# Altium schematic symbol library WE-IBTI.SchLib: 39 symbols
Pins are listed as number, name and electrical type; pins without a type are passive.

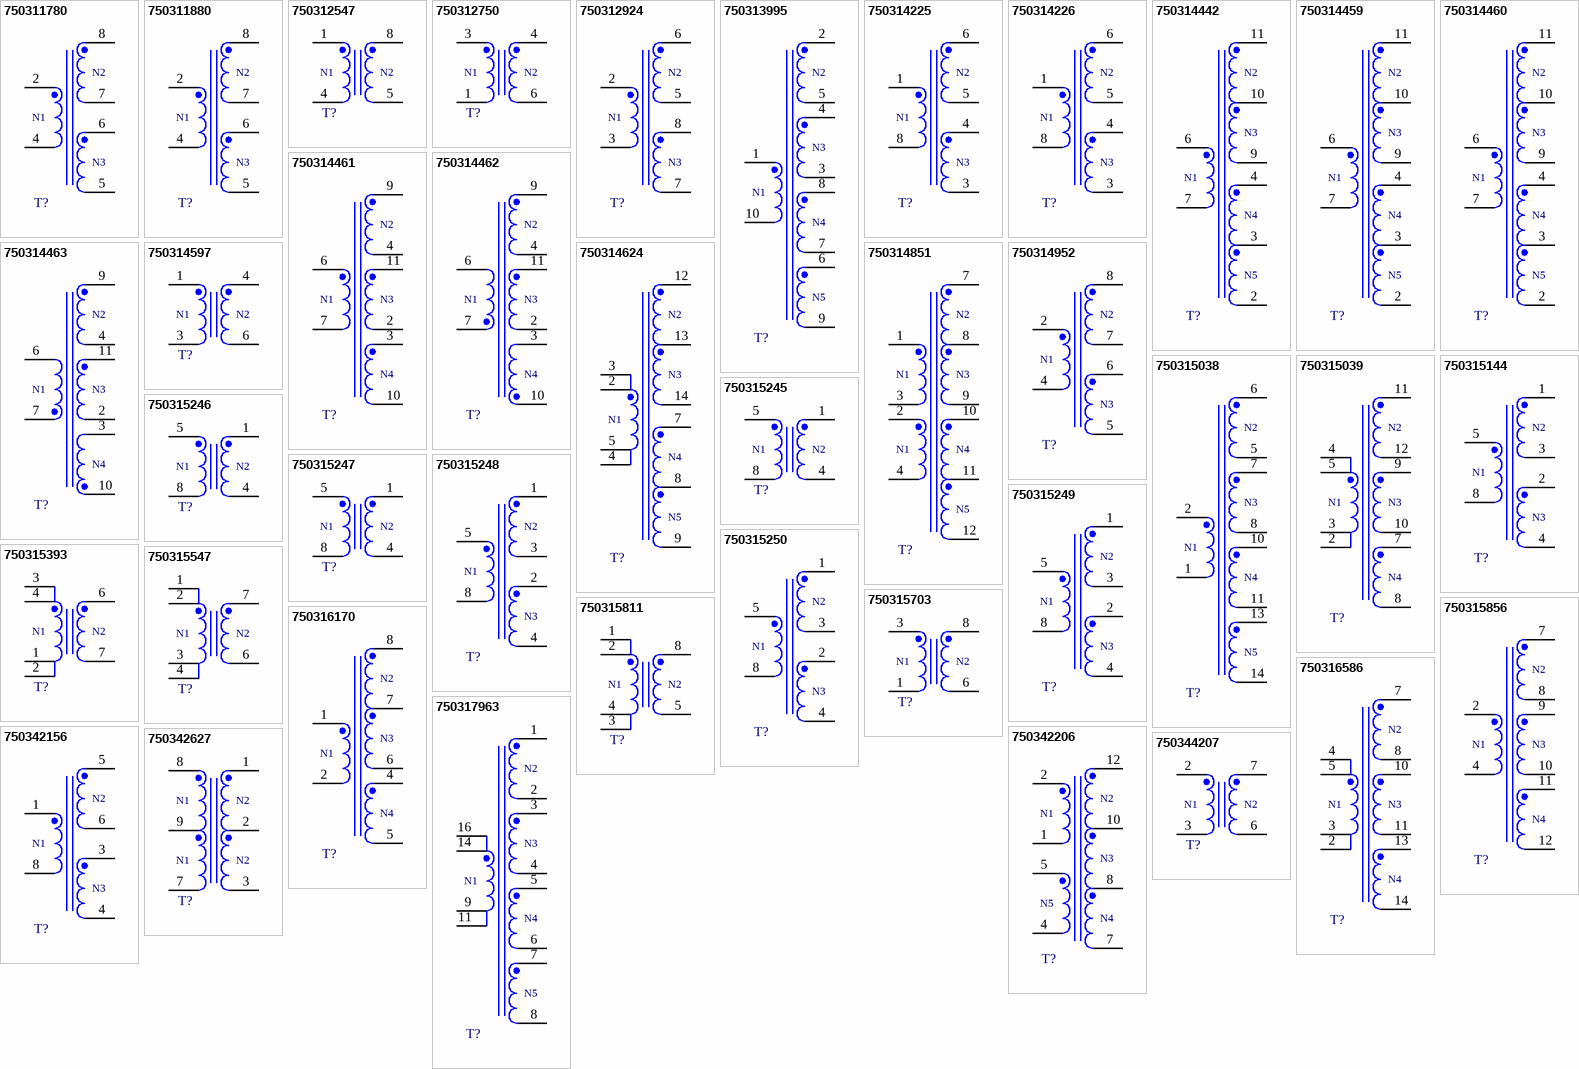
[diagram p0: symbols 750311780 to 750344207]

## 750311780
designator T?  (value not drawn)
WE-IBTI Isolated Buck Transformer, SMT, EP7, Ui = 2.5 - 3.5V, Uo1 = 15V/0.2A, Uo2 = 15V/0.2A; Manufacturer: Wurth Elektronik; Inductance: 2uH; Insulation Test Voltage: 2000V AC; Leakage Inductance: 200nH; Output Current 1: 0.2A; Output Voltage 1: 15V; Saturation Current: 10A; Switching Frequency: 500kHz; Manufacturer Part Number: 750311780; Category: Transformers For DC-DC Converter; Match Code: WE-IBTI; ComponentLink1Description: Website Link; ComponentLink1URL: https://www.we-online.com/redexpert/article/750311780?ad; ComponentLink2Description: Datasheet Link; ComponentLink2URL: https://www.we-online.com/redexpert/spec/750311780?ad; Mount: Surface Mount; Operating Temperature Max: 125°C; Operating Temperature Min: -40°C; Packaging: Tape and Reel; Case/Size Code: EP7; Length: 9.78mm; Width: 9.14mm; Height: 10.54mm; Input Voltage: 2.5 - 3.5V; Output Current 2: 0.2A; Output Voltage 2: 15V
footprint EP7_750311780
pins: 2, 4, 5, 6, 7, 8
text: N2; N1; N3

## 750311880
designator T?  (value not drawn)
WE-IBTI Isolated Buck Transformer, SMT, EP7, Ui = 3 - 6V, Uo = 5V/0.2A; Manufacturer: Wurth Elektronik; Inductance: 2.5uH; Input Voltage: 3 - 6V; Insulation Test Voltage: 2500V AC; Leakage Inductance: 125nH; Output Current 1: 0.2A; Output Voltage 1: 5V; Saturation Current: 12A; Switching Frequency: 200 - 600kHz; Manufacturer Part Number: 750311880; Category: Transformers For DC-DC Converter; Match Code: WE-IBTI; ComponentLink1Description: Website Link; ComponentLink1URL: https://www.we-online.com/redexpert/article/750311880?ad; ComponentLink2Description: Datasheet Link; ComponentLink2URL: https://www.we-online.com/redexpert/spec/750311880?ad; Mount: Surface Mount; Operating Temperature Max: 125°C; Operating Temperature Min: -40°C; Packaging: Tape and Reel; Case/Size Code: EP7; Length: 9.78mm; Width: 9.14mm; Height: 10.54mm
footprint EP7_750311880
pins: 2, 4, 5, 6, 7, 8
text: N2; N1; N3

## 750312547
designator T?  (value not drawn)
WE-IBTI Isolated Buck Transformer, SMT, EP7, Ui = 3 - 6V, Uo = 5V/0.2A; Manufacturer: Wurth Elektronik; Inductance: 1uH; Input Voltage: 3 - 6V; Insulation Test Voltage: 3000V AC; Leakage Inductance: 70nH; Output Current 1: 0.2A; Output Voltage 1: 5V; Switching Frequency: 500kHz; Manufacturer Part Number: 750312547; Category: Transformers For DC-DC Converter; Match Code: WE-IBTI; ComponentLink1Description: Website Link; ComponentLink1URL: https://www.we-online.com/redexpert/article/750312547?ad; ComponentLink2Description: Datasheet Link; ComponentLink2URL: https://www.we-online.com/redexpert/spec/750312547?ad; Mount: Surface Mount; Operating Temperature Max: 125°C; Operating Temperature Min: -40°C; Packaging: Tape and Reel; Case/Size Code: EP7; Length: 9.78mm; Width: 9.14mm; Height: 10.54mm
footprint EP7_750312547
pins: 1, 4, 5, 8
text: N1; N2

## 750312750
designator T?  (value not drawn)
WE-IBTI Isolated Buck Transformer, SMT, EP5, Ui = 20 - 100V, Uo = 10V/0.3A; Manufacturer: Wurth Elektronik; Buck Voltage: 10V; Inductance: 23uH; Insulation Test Voltage: 1500V AC; Leakage Inductance: 400nH; Output Current 1: 0.3A; Saturation Current: 0.76A; Switching Frequency: 750kHz; Manufacturer Part Number: 750312750; Category: Transformers For DC-DC Converter; Match Code: WE-IBTI; ComponentLink1Description: Website Link; ComponentLink1URL: https://www.we-online.com/redexpert/article/750312750?ad; ComponentLink2Description: Datasheet Link; ComponentLink2URL: https://www.we-online.com/redexpert/spec/750312750?ad; Mount: Surface Mount; Operating Temperature Max: 125°C; Operating Temperature Min: -40°C; Packaging: Tape and Reel; Case/Size Code: EP5; Length: 6.6mm; Width: 8.26mm; Height: 5.59mm; Input Voltage: 20 - 100V; Output Voltage 1: 10V
footprint EP5_750312750
pins: 1, 3, 4, 6
text: N1; N2

## 750312924
designator T?  (value not drawn)
WE-IBTI Isolated Buck Transformer, SMT, EP5, Ui = 36 - 75V, Uo1 = 10V/0.12A, Uo2 = 5V/0.08A; Manufacturer: Wurth Elektronik; Buck Voltage: 10V; Inductance: 26uH; Input Voltage: 36 - 75V; Insulation Test Voltage: 1500V AC; Leakage Inductance: 1000nH; Output Current 1: 0.12A; Output Current 2: 0.08A; Output Voltage 2: 5V; Saturation Current: 0.55A; Switching Frequency: 750kHz; Manufacturer Part Number: 750312924; Category: Transformers For DC-DC Converter; Match Code: WE-IBTI; ComponentLink1Description: Website Link; ComponentLink1URL: https://www.we-online.com/redexpert/article/750312924?ad; ComponentLink2Description: Datasheet Link; ComponentLink2URL: https://www.we-online.com/redexpert/spec/750312924?ad; Mount: Surface Mount; Operating Temperature Max: 125°C; Operating Temperature Min: -40°C; Packaging: Tape and Reel; Case/Size Code: EP5; Length: 8.35mm; Width: 9.5mm; Height: 6.35mm; Output Voltage 1: 10V
footprint EP5_750312924
pins: 2, 3, 5, 6, 7, 8
text: N2; N1; N3

## 750313995
designator T?  (value not drawn)
WE-IBTI Isolated Buck Transformer, SMT, EP13, Ui = 15 - 40, Uo1 = 15V/0.05A, Uo2 = 5V/0.1A, Uo3 = 5V/0.1A, Uo4 = 15V/0.05A; Manufacturer: Wurth Elektronik; Buck Voltage: 7.8V; Inductance: 50uH; Input Voltage: 15 - 40; Insulation Test Voltage: 1500V AC; Leakage Inductance: 260nH; Output Current 1: 0.05A; Output Current 2: 0.1A; Output Voltage 1: 15V; Output Voltage 2: 5V; Saturation Current: 1.5A; Switching Frequency: 300 - 600kHz; Manufacturer Part Number: 750313995; Category: Transformers For DC-DC Converter; Match Code: WE-IBTI; ComponentLink1Description: Website Link; ComponentLink1URL: https://www.we-online.com/redexpert/article/750313995?ad; ComponentLink2Description: Datasheet Link; ComponentLink2URL: https://www.we-online.com/redexpert/spec/750313995?ad; Mount: Surface Mount; Operating Temperature Max: 125°C; Operating Temperature Min: -40°C; Packaging: Tape and Reel; Case/Size Code: EP13; Length: 13.46mm; Width: 17.75mm; Height: 12.7mm; Output Current 3: 0.1A; Output Current 4: 0.05A; Output Voltage 3: 5V; Output Voltage 4: 15V
footprint EP13_750313995
pins: 1, 2, 3, 4, 5, 6, 7, 8, 9, 10
text: N2; N3; N1; N4; N5

## 750314225
designator T?  (value not drawn)
WE-IBTI Isolated Buck Transformer, SMT, EP10, Ui = 15 - 40V, Uo1 = 5V/0.25A, Uo2 = 5V/0.25A; Manufacturer: Wurth Elektronik; Buck Voltage: 7.8V; Inductance: 50uH; Input Voltage: 15 - 40V; Insulation Test Voltage: 1500V AC; Leakage Inductance: 800nH; Output Current 1: 0.25A; Output Voltage 1: 5V; Saturation Current: 1.3A; Switching Frequency: 250 - 600kHz; Manufacturer Part Number: 750314225; Category: Transformers For DC-DC Converter; Match Code: WE-IBTI; ComponentLink1Description: Website Link; ComponentLink1URL: https://www.we-online.com/redexpert/article/750314225?ad; ComponentLink2Description: Datasheet Link; ComponentLink2URL: https://www.we-online.com/redexpert/spec/750314225?ad; Mount: Surface Mount; Operating Temperature Max: 125°C; Operating Temperature Min: -40°C; Packaging: Tape and Reel; Case/Size Code: EP10; Length: 13.34mm; Width: 15.24mm; Height: 11.43mm; Output Current 2: 0.25A; Output Voltage 2: 5V
footprint EP10_750314225
pins: 1, 3, 4, 5, 6, 8
text: N2; N1; N3

## 750314226
designator T?  (value not drawn)
WE-IBTI Isolated Buck Transformer, SMT, EP10, Ui = 15 - 40V, Uo1 = 15V/0.15A, Uo2 = 15V/0.15A; Manufacturer: Wurth Elektronik; Buck Voltage: 7.8V; Inductance: 33.8uH; Input Voltage: 15 - 40V; Insulation Test Voltage: 1875V AC; Leakage Inductance: 150nH; Output Current 1: 0.15A; Output Voltage 1: 15V; Saturation Current: 1A; Switching Frequency: 250 - 600kHz; Manufacturer Part Number: 750314226; Category: Transformers For DC-DC Converter; Match Code: WE-IBTI; ComponentLink1Description: Website Link; ComponentLink1URL: https://www.we-online.com/redexpert/article/750314226?ad; ComponentLink2Description: Datasheet Link; ComponentLink2URL: https://www.we-online.com/redexpert/spec/750314226?ad; Mount: Surface Mount; Operating Temperature Max: 125°C; Operating Temperature Min: -40°C; Packaging: Tape and Reel; Case/Size Code: EP10; Length: 13.34mm; Width: 15.24mm; Height: 11.43mm; Output Current 2: 0.15A; Output Voltage 2: 15V
footprint EP10_750314226
pins: 1, 3, 4, 5, 6, 8
text: N2; N1; N3

## 750314442
designator T?  (value not drawn)
WE-IBTI Isolated Buck Transformer, SMT, ER11_5, Ui = 16 - 36V, Uo1 = 10V/0.025A, Uo2 = 5V/0.08A, Uo3 = -5V/0.08A, Uo4 = -10V/0.025A; Manufacturer: Wurth Elektronik; Buck Voltage: 13V; Inductance: 45uH; Input Voltage: 16 - 36V; Insulation Test Voltage: 1500V AC; Leakage Inductance: 930nH; Output Current 1: 0.025A; Output Current 2: 0.08A; Output Voltage 1: 10V; Output Voltage 2: 5V; Output Voltage 3: -5V; Output Voltage 4: -10V; Saturation Current: 0.78A; Switching Frequency: 200 - 350kHz; Manufacturer Part Number: 750314442; Category: Transformers For DC-DC Converter; Match Code: WE-IBTI; ComponentLink1Description: Website Link; ComponentLink1URL: https://www.we-online.com/redexpert/article/750314442?ad; ComponentLink2Description: Datasheet Link; ComponentLink2URL: https://www.we-online.com/redexpert/spec/750314442?ad; Mount: Surface Mount; Operating Temperature Max: 125°C; Operating Temperature Min: -40°C; Packaging: Tape and Reel; Case/Size Code: ER11_5; Length: 12.95mm; Width: 12.7mm; Height: 5.98mm; Output Current 3: 0.08A; Output Current 4: 0.025A
footprint ER11_5_750314442
pins: 2, 3, 4, 6, 7, 9, 10, 11
text: N2; N3; N1; N4; N5

## 750314459
designator T?  (value not drawn)
WE-IBTI Isolated Buck Transformer, SMT, ER11_5, Ui = 16 - 36V, Uo1 = 7V/0.03A, Uo2 = 5V/0.08A, Uo3 = -5V/0.08A, Uo4 = -7V/0.03A; Manufacturer: Wurth Elektronik; Buck Voltage: 13V; Inductance: 45uH; Input Voltage: 16 - 36V; Insulation Test Voltage: 1500V AC; Leakage Inductance: 1000nH; Output Current 1: 0.03A; Output Current 2: 0.08A; Output Voltage 1: 7V; Output Voltage 2: 5V; Output Voltage 3: -5V; Output Voltage 4: -7V; Saturation Current: 0.8A; Switching Frequency: 200 - 350kHz; Manufacturer Part Number: 750314459; Category: Transformers For DC-DC Converter; Match Code: WE-IBTI; ComponentLink1Description: Website Link; ComponentLink1URL: https://www.we-online.com/redexpert/article/750314459?ad; ComponentLink2Description: Datasheet Link; ComponentLink2URL: https://www.we-online.com/redexpert/spec/750314459?ad; Mount: Surface Mount; Operating Temperature Max: 125°C; Operating Temperature Min: -40°C; Packaging: Tape and Reel; Case/Size Code: ER11_5; Length: 12.95mm; Width: 12.7mm; Height: 5.98mm; Output Current 3: 0.08A; Output Current 4: 0.03A
footprint ER11_5_750314459
pins: 2, 3, 4, 6, 7, 9, 10, 11
text: N2; N3; N1; N4; N5

## 750314460
designator T?  (value not drawn)
WE-IBTI Isolated Buck Transformer, SMT, ER11_5, Ui = 16 - 36V, Uo1 = 12V/0.03A, Uo2 = 12V/0.03A, Uo3 = -5V/0.08A, Uo4 = -5V/0.08A; Manufacturer: Wurth Elektronik; Buck Voltage: 13V; Inductance: 45uH; Input Voltage: 16 - 36V; Insulation Test Voltage: 1500V AC; Leakage Inductance: 910nH; Output Current 1: 0.03A; Output Current 3: 0.08A; Output Voltage 1: 12V; Output Voltage 3: -5V; Saturation Current: 0.9A; Switching Frequency: 200 - 350kHz; Manufacturer Part Number: 750314460; Category: Transformers For DC-DC Converter; Match Code: WE-IBTI; ComponentLink1Description: Website Link; ComponentLink1URL: https://www.we-online.com/redexpert/article/750314460?ad; ComponentLink2Description: Datasheet Link; ComponentLink2URL: https://www.we-online.com/redexpert/spec/750314460?ad; Mount: Surface Mount; Operating Temperature Max: 125°C; Operating Temperature Min: -40°C; Packaging: Tape and Reel; Case/Size Code: ER11_5; Length: 12.95mm; Width: 12.7mm; Height: 5.98mm; Output Current 2: 0.03A; Output Current 4: 0.08A; Output Voltage 2: 12V; Output Voltage 4: -5V
footprint ER11_5_750314460
pins: 2, 3, 4, 6, 7, 9, 10, 11
text: N2; N3; N1; N4; N5

## 750314461
designator T?  (value not drawn)
WE-IBTI Isolated Buck Transformer, SMT, ER11_5, Ui = 16 - 36V, Uo1 = 15V/0.033A, Uo2 = 5V/0.1A, Uo3 = -5V/0.1A; Manufacturer: Wurth Elektronik; Buck Voltage: 13V; Inductance: 45uH; Input Voltage: 16 - 36V; Insulation Test Voltage: 1500V AC; Leakage Inductance: 400nH; Output Current 1: 0.033A; Output Current 2: 0.1A; Output Voltage 1: 15V; Output Voltage 2: 5V; Output Voltage 3: -5V; Saturation Current: 0.96A; Switching Frequency: 200 - 350kHz; Manufacturer Part Number: 750314461; Category: Transformers For DC-DC Converter; Match Code: WE-IBTI; ComponentLink1Description: Website Link; ComponentLink1URL: https://www.we-online.com/redexpert/article/750314461?ad; ComponentLink2Description: Datasheet Link; ComponentLink2URL: https://www.we-online.com/redexpert/spec/750314461?ad; Mount: Surface Mount; Operating Temperature Max: 125°C; Operating Temperature Min: -40°C; Packaging: Tape and Reel; Case/Size Code: ER11_5; Length: 12.95mm; Width: 12.7mm; Height: 5.98mm; Output Current 3: 0.1A
footprint ER11_5_750314461
pins: 2, 3, 4, 6, 7, 9, 10, 11
text: N2; N1; N3; N4

## 750314462
designator T?  (value not drawn)
WE-IBTI Isolated Buck Transformer, SMT, ER11_5, Ui = 16 - 36V, Uo1 = 5V/0.1A, Uo2 = 12V/0.04A, Uo3 = -12V/0.04A; Manufacturer: Wurth Elektronik; Buck Voltage: 13V; Inductance: 45uH; Input Voltage: 16 - 36V; Insulation Test Voltage: 1500V AC; Leakage Inductance: 450nH; Output Current 1: 0.1A; Output Current 2: 0.04A; Output Voltage 1: 5V; Output Voltage 2: 12V; Output Voltage 3: -12V; Saturation Current: 0.98A; Switching Frequency: 200 - 350kHz; Manufacturer Part Number: 750314462; Category: Transformers For DC-DC Converter; Match Code: WE-IBTI; ComponentLink1Description: Website Link; ComponentLink1URL: https://www.we-online.com/redexpert/article/750314462?ad; ComponentLink2Description: Datasheet Link; ComponentLink2URL: https://www.we-online.com/redexpert/spec/750314462?ad; Mount: Surface Mount; Operating Temperature Max: 125°C; Operating Temperature Min: -40°C; Packaging: Tape and Reel; Case/Size Code: ER11_5; Length: 12.95mm; Width: 12.7mm; Height: 5.98mm; Output Current 3: 0.04A
footprint ER11_5_750314462
pins: 2, 3, 4, 6, 7, 9, 10, 11
text: N2; N1; N3; N4

## 750314463
designator T?  (value not drawn)
WE-IBTI Isolated Buck Transformer, SMT, ER11_5, Ui = 16 - 36V, Uo1 = 24V/0.02A, Uo2 = 12V/0.04A, Uo3 = -12V/0.04A; Manufacturer: Wurth Elektronik; Buck Voltage: 13V; Inductance: 45uH; Input Voltage: 16 - 36V; Insulation Test Voltage: 1500V AC; Leakage Inductance: 450nH; Output Current 1: 0.02A; Output Current 2: 0.04A; Output Voltage 1: 24V; Output Voltage 2: 12V; Output Voltage 3: -12V; Saturation Current: 0.96A; Switching Frequency: 200 - 350kHz; Manufacturer Part Number: 750314463; Category: Transformers For DC-DC Converter; Match Code: WE-IBTI; ComponentLink1Description: Website Link; ComponentLink1URL: https://www.we-online.com/redexpert/article/750314463?ad; ComponentLink2Description: Datasheet Link; ComponentLink2URL: https://www.we-online.com/redexpert/spec/750314463?ad; Mount: Surface Mount; Operating Temperature Max: 125°C; Operating Temperature Min: -40°C; Packaging: Tape and Reel; Case/Size Code: ER11_5; Length: 12.95mm; Width: 12.7mm; Height: 5.98mm; Output Current 3: 0.04A
footprint ER11_5_750314463
pins: 2, 3, 4, 6, 7, 9, 10, 11
text: N2; N1; N3; N4

## 750314597
designator T?  (value not drawn)
WE-IBTI Isolated Buck Transformer, SMT, EP7, Ui = 10 - 40V, Uo = 15.5V/0.25A; Manufacturer: Wurth Elektronik; Buck Voltage: 8V; Inductance: 60uH; Input Voltage: 10 - 40V; Insulation Test Voltage: 1500V AC; Leakage Inductance: 1200nH; Output Current 1: 0.25A; Output Voltage 1: 15.5V; Saturation Current: 0.84A; Switching Frequency: 150kHz; Manufacturer Part Number: 750314597; Category: Transformers For DC-DC Converter; Match Code: WE-IBTI; ComponentLink1Description: Website Link; ComponentLink1URL: https://www.we-online.com/redexpert/article/750314597?ad; ComponentLink2Description: Datasheet Link; ComponentLink2URL: https://www.we-online.com/redexpert/spec/750314597?ad; Mount: Surface Mount; Operating Temperature Max: 125°C; Operating Temperature Min: -40°C; Packaging: Tape and Reel; Case/Size Code: EP7; Length: 10.16mm; Width: 13.36mm; Height: 8.64mm
footprint EP7_750314597
pins: 1, 3, 4, 6
text: N1; N2

## 750314624
designator T?  (value not drawn)
WE-IBTI Isolated Buck Transformer, THT, EE20_10_6, Ui = 17 - 35V, Uo1 = 9V/0.1A, Uo2 = 16V/0.1A, Uo3 = 9V/0.1A, Uo4 = 16V/0.1A; Manufacturer: Wurth Elektronik; Buck Voltage: 10.3V; Inductance: 60uH; Input Voltage: 17 - 35V; Insulation Test Voltage: 5000V AC; Leakage Inductance: 800nH; Output Current 1: 0.1A; Output Voltage 1: 9V; Output Voltage 2: 16V; Saturation Current: 1.55A; Switching Frequency: 250 - 600kHz; Manufacturer Part Number: 750314624; Category: Transformers For DC-DC Converter; Match Code: WE-IBTI; ComponentLink1Description: Website Link; ComponentLink1URL: https://www.we-online.com/redexpert/article/750314624?ad; ComponentLink2Description: Datasheet Link; ComponentLink2URL: https://www.we-online.com/redexpert/spec/750314624?ad; Mount: Through Hole; Operating Temperature Max: 125°C; Operating Temperature Min: -40°C; Packaging: Tray; Case/Size Code: EE20_10_6; Length: 22.2mm; Width: 25mm; Height: 16mm; Output Current 2: 0.1A; Output Current 3: 0.1A; Output Current 4: 0.1A; Output Voltage 3: 9V; Output Voltage 4: 16V
footprint EE20_10_6_750314624
pins: 2, 3, 4, 5, 7, 8, 9, 12, 13, 14
text: N2; N3; N1; N4; N5

## 750314851
designator T?  (value not drawn)
WE-IBTI Isolated Buck Transformer, SMT, EE_16_8_5, Ui = 14 - 40V, Uo1 = 14V/0.1A, Uo2 = 5V/0.05A, Uo3 = 14V/0.05A, Uo4 = 5V/0.05A; Manufacturer: Wurth Elektronik; Buck Voltage: 10.2V; Inductance: 68uH; Input Voltage: 14 - 40V; Insulation Test Voltage: 4000V AC; Leakage Inductance: 1200nH; Output Current 1: 0.1A; Output Current 2: 0.05A; Output Voltage 1: 14V; Output Voltage 2: 5V; Saturation Current: 1.8A; Switching Frequency: 300kHz; Manufacturer Part Number: 750314851; Category: Transformers For DC-DC Converter; Match Code: WE-IBTI; ComponentLink1Description: Website Link; ComponentLink1URL: https://www.we-online.com/redexpert/article/750314851?ad; ComponentLink2Description: Datasheet Link; ComponentLink2URL: https://www.we-online.com/redexpert/spec/750314851?ad; Mount: Surface Mount; Operating Temperature Max: 125°C; Operating Temperature Min: -40°C; Packaging: Tape and Reel; Case/Size Code: EE_16_8_5; Length: 17.78mm; Width: 26.1mm; Height: 13.8mm; Output Current 3: 0.05A; Output Current 4: 0.05A; Output Voltage 3: 14V; Output Voltage 4: 5V
footprint EE_16_8_5_750314851
pins: 1, 2, 3, 4, 7, 8, 9, 10, 11, 12
text: N2; N1; N3; N4; N5

## 750314952
designator T?  (value not drawn)
WE-IBTI Isolated Buck Transformer, SMT, EP7, Ui = 10 - 40V, Uo = 3.3V/0.15A; Manufacturer: Wurth Elektronik; Buck Voltage: 3.3V; Inductance: 2500uH; Input Voltage: 10 - 40V; Insulation Test Voltage: 2000V AC; Output Current 1: 0.15A; Switching Frequency: 100kHz; Manufacturer Part Number: 750314952; Category: Transformers For DC-DC Converter; Match Code: WE-IBTI; ComponentLink1Description: Website Link; ComponentLink1URL: https://www.we-online.com/redexpert/article/750314952?ad; ComponentLink2Description: Datasheet Link; ComponentLink2URL: https://www.we-online.com/redexpert/spec/750314952?ad; Mount: Surface Mount; Operating Temperature Max: 125°C; Operating Temperature Min: -40°C; Packaging: Tape and Reel; Case/Size Code: EP7; Length: 9.78mm; Width: 9.14mm; Height: 10.54mm; Output Voltage 1: 3.3V
footprint EP7_750314952
pins: 2, 4, 5, 6, 7, 8
text: N2; N1; N3

## 750315038
designator T?  (value not drawn)
WE-IBTI Isolated Buck Transformer, THT, PQ2020, Ui = 7 - 26V, Uo1 = 23V/0.3A, Uo2 = 23V/0.1A, Uo3 = 23V/0.1A, Uo4 = 23V/0.1A; Manufacturer: Wurth Elektronik; Buck Voltage: 10.5V; Inductance: 36.5uH; Input Voltage: 7 - 26V; Insulation Test Voltage: 3600V AC; Leakage Inductance: 300nH; Output Current 1: 0.3A; Output Current 2: 0.1A; Output Voltage 1: 23V; Switching Frequency: 250 - 600kHz; Manufacturer Part Number: 750315038; Category: Transformers For DC-DC Converter; Match Code: WE-IBTI; ComponentLink1Description: Website Link; ComponentLink1URL: https://www.we-online.com/redexpert/article/750315038?ad; ComponentLink2Description: Datasheet Link; ComponentLink2URL: https://www.we-online.com/redexpert/spec/750315038?ad; Mount: Through Hole; Operating Temperature Max: 125°C; Operating Temperature Min: -40°C; Packaging: Tray; Case/Size Code: PQ2020; Length: 23.36mm; Width: 23.88mm; Height: 24.14mm; Output Current 3: 0.1A; Output Current 4: 0.1A; Output Voltage 2: 23V; Output Voltage 3: 23V; Output Voltage 4: 23V
footprint PQ2020_750315038
pins: 1, 2, 5, 6, 7, 8, 10, 11, 13, 14
text: N2; N3; N1; N4; N5

## 750315039
designator T?  (value not drawn)
WE-IBTI Isolated Buck Transformer, SMT, EFD20, Ui = 19 - 30V, Uo1 = 5V/1A, Uo2 = 15V/0.2A, Uo3 = 15V/0.2A; Manufacturer: Wurth Elektronik; Buck Voltage: 7.65V; Inductance: 40uH; Input Voltage: 19 - 30V; Insulation Test Voltage: 1500V AC; Leakage Inductance: 300nH; Output Current 1: 1A; Output Current 2: 0.2A; Output Voltage 1: 5V; Output Voltage 2: 15V; Saturation Current: 1.8A; Switching Frequency: 250kHz; Manufacturer Part Number: 750315039; Category: Transformers For DC-DC Converter; Match Code: WE-IBTI; ComponentLink1Description: Website Link; ComponentLink1URL: https://www.we-online.com/redexpert/article/750315039?ad; ComponentLink2Description: Datasheet Link; ComponentLink2URL: https://www.we-online.com/redexpert/spec/750315039?ad; Mount: Surface Mount; Operating Temperature Max: 125°C; Operating Temperature Min: -40°C; Packaging: Tape and Reel; Case/Size Code: EFD20; Length: 23.11mm; Width: 29.08mm; Height: 11.43mm; Output Current 3: 0.2A; Output Voltage 3: 15V
footprint EFD20_750315039
pins: 2, 3, 4, 5, 7, 8, 9, 10, 11, 12
text: N2; N1; N3; N4

## 750315144
designator T?  (value not drawn)
WE-IBTI Isolated Buck Transformer, SMT, ER9_5S, Ui = 12 - 36V, Uo1 = -17.5V/0.03A, Uo2 = 17.5V/0.045A; Manufacturer: Wurth Elektronik; Buck Voltage: 9V; Inductance: 80uH; Input Voltage: 12 - 36V; Insulation Test Voltage: 490V AC; Leakage Inductance: 2100nH; Output Current 1: 0.03A; Output Current 2: 0.045A; Output Voltage 1: -17.5V; Output Voltage 2: 17.5V; Saturation Current: 0.5A; Switching Frequency: 300kHz; Manufacturer Part Number: 750315144; Category: Transformers For DC-DC Converter; Match Code: WE-IBTI; ComponentLink1Description: Website Link; ComponentLink1URL: https://www.we-online.com/redexpert/article/750315144?ad; ComponentLink2Description: Datasheet Link; ComponentLink2URL: https://www.we-online.com/redexpert/spec/750315144?ad; Mount: Surface Mount; Operating Temperature Max: 125°C; Operating Temperature Min: -40°C; Packaging: Tape and Reel; Case/Size Code: ER9_5S; Length: 10mm; Width: 14mm; Height: 5mm
footprint ER9_5S_750315144
pins: 1, 2, 3, 4, 5, 8
text: N2; N1; N3

## 750315245
designator T?  (value not drawn)
WE-IBTI Isolated Buck Transformer, SMT, ER9_5S, Ui = 20 - 30V, Uo = 5V/0.2A; Manufacturer: Wurth Elektronik; Buck Voltage: 5.5V; Inductance: 30uH; Input Voltage: 20 - 30V; Insulation Test Voltage: 1500V AC; Leakage Inductance: 750nH; Output Current 1: 0.2A; Output Voltage 1: 5V; Saturation Current: 0.96A; Switching Frequency: 350kHz; Manufacturer Part Number: 750315245; Category: Transformers For DC-DC Converter; Match Code: WE-IBTI; ComponentLink1Description: Website Link; ComponentLink1URL: https://www.we-online.com/redexpert/article/750315245?ad; ComponentLink2Description: Datasheet Link; ComponentLink2URL: https://www.we-online.com/redexpert/spec/750315245?ad; Mount: Surface Mount; Operating Temperature Max: 125°C; Operating Temperature Min: -40°C; Packaging: Tape and Reel; Case/Size Code: ER9_5S; Length: 10mm; Width: 14mm; Height: 5mm
footprint ER9_5S_750315245
pins: 1, 4, 5, 8
text: N1; N2

## 750315246
designator T?  (value not drawn)
WE-IBTI Isolated Buck Transformer, SMT, ER9_5S, Ui = 16 - 36V, Uo = 5V/0.2A; Manufacturer: Wurth Elektronik; Buck Voltage: 5V; Inductance: 26uH; Input Voltage: 16 - 36V; Insulation Test Voltage: 1500V AC; Leakage Inductance: 650nH; Output Current 1: 0.2A; Saturation Current: 0.96A; Switching Frequency: 350kHz; Manufacturer Part Number: 750315246; Category: Transformers For DC-DC Converter; Match Code: WE-IBTI; ComponentLink1Description: Website Link; ComponentLink1URL: https://www.we-online.com/redexpert/article/750315246?ad; ComponentLink2Description: Datasheet Link; ComponentLink2URL: https://www.we-online.com/redexpert/spec/750315246?ad; Mount: Surface Mount; Operating Temperature Max: 125°C; Operating Temperature Min: -40°C; Packaging: Tape and Reel; Case/Size Code: ER9_5S; Length: 10mm; Width: 14mm; Height: 5mm; Output Voltage 1: 5V
footprint ER9_5S_750315246
pins: 1, 4, 5, 8
text: N1; N2

## 750315247
designator T?  (value not drawn)
WE-IBTI Isolated Buck Transformer, SMT, ER9_5S, Ui = 20 - 30V, Uo = 15V/0.1A; Manufacturer: Wurth Elektronik; Buck Voltage: 7.8V; Inductance: 30uH; Input Voltage: 20 - 30V; Insulation Test Voltage: 1500V AC; Leakage Inductance: 825nH; Output Current 1: 0.1A; Output Voltage 1: 15V; Saturation Current: 0.88A; Switching Frequency: 350kHz; Manufacturer Part Number: 750315247; Category: Transformers For DC-DC Converter; Match Code: WE-IBTI; ComponentLink1Description: Website Link; ComponentLink1URL: https://www.we-online.com/redexpert/article/750315247?ad; ComponentLink2Description: Datasheet Link; ComponentLink2URL: https://www.we-online.com/redexpert/spec/750315247?ad; Mount: Surface Mount; Operating Temperature Max: 125°C; Operating Temperature Min: -40°C; Packaging: Tape and Reel; Case/Size Code: ER9_5S; Length: 10mm; Width: 14mm; Height: 5mm
footprint ER9_5S_750315247
pins: 1, 4, 5, 8
text: N1; N2

## 750315248
designator T?  (value not drawn)
WE-IBTI Isolated Buck Transformer, SMT, ER9_5S, Ui = 20 - 30V, Uo1 = -5V/0.1A, Uo2 = 5V/0.1A; Manufacturer: Wurth Elektronik; Buck Voltage: 5.5V; Inductance: 30uH; Input Voltage: 20 - 30V; Insulation Test Voltage: 1500V AC; Leakage Inductance: 750nH; Output Current 1: 0.1A; Output Voltage 1: -5V; Output Voltage 2: 5V; Saturation Current: 0.96A; Switching Frequency: 350kHz; Manufacturer Part Number: 750315248; Category: Transformers For DC-DC Converter; Match Code: WE-IBTI; ComponentLink1Description: Website Link; ComponentLink1URL: https://www.we-online.com/redexpert/article/750315248?ad; ComponentLink2Description: Datasheet Link; ComponentLink2URL: https://www.we-online.com/redexpert/spec/750315248?ad; Mount: Surface Mount; Operating Temperature Max: 125°C; Operating Temperature Min: -40°C; Packaging: Tape and Reel; Case/Size Code: ER9_5S; Length: 10mm; Width: 14mm; Height: 5mm; Output Current 2: 0.1A
footprint ER9_5S_750315248
pins: 1, 2, 3, 4, 5, 8
text: N2; N1; N3

## 750315249
designator T?  (value not drawn)
WE-IBTI Isolated Buck Transformer, SMT, ER9_5S, Ui = 20 - 30V, Uo1 = -15V/0.05A, Uo2 = 15V/0.05A; Manufacturer: Wurth Elektronik; Buck Voltage: 10.4V; Inductance: 30uH; Input Voltage: 20 - 30V; Insulation Test Voltage: 1500V AC; Leakage Inductance: 900nH; Output Current 1: 0.05A; Output Voltage 1: -15V; Output Voltage 2: 15V; Saturation Current: 0.92A; Switching Frequency: 350kHz; Manufacturer Part Number: 750315249; Category: Transformers For DC-DC Converter; Match Code: WE-IBTI; ComponentLink1Description: Website Link; ComponentLink1URL: https://www.we-online.com/redexpert/article/750315249?ad; ComponentLink2Description: Datasheet Link; ComponentLink2URL: https://www.we-online.com/redexpert/spec/750315249?ad; Mount: Surface Mount; Operating Temperature Max: 125°C; Operating Temperature Min: -40°C; Packaging: Tape and Reel; Case/Size Code: ER9_5S; Length: 10mm; Width: 14mm; Height: 5mm; Output Current 2: 0.05A
footprint ER9_5S_750315249
pins: 1, 2, 3, 4, 5, 8
text: N2; N1; N3

## 750315250
designator T?  (value not drawn)
WE-IBTI Isolated Buck Transformer, SMT, ER9_5S, Ui = 20 - 30V, Uo1 = -5V/0.1A, Uo2 = 5V/0.1A; Manufacturer: Wurth Elektronik; Buck Voltage: 11V; Inductance: 30uH; Input Voltage: 20 - 30V; Insulation Test Voltage: 1500V AC; Leakage Inductance: 825nH; Output Current 1: 0.1A; Output Voltage 1: -5V; Output Voltage 2: 5V; Saturation Current: 0.9A; Switching Frequency: 350kHz; Manufacturer Part Number: 750315250; Category: Transformers For DC-DC Converter; Match Code: WE-IBTI; ComponentLink1Description: Website Link; ComponentLink1URL: https://www.we-online.com/redexpert/article/750315250?ad; ComponentLink2Description: Datasheet Link; ComponentLink2URL: https://www.we-online.com/redexpert/spec/750315250?ad; Mount: Surface Mount; Operating Temperature Max: 125°C; Operating Temperature Min: -40°C; Packaging: Tape and Reel; Case/Size Code: ER9_5S; Length: 10mm; Width: 14mm; Height: 5mm; Output Current 2: 0.1A
footprint ER9_5S_750315250
pins: 1, 2, 3, 4, 5, 8
text: N2; N1; N3

## 750315393
designator T?  (value not drawn)
WE-IBTI Isolated Buck Transformer, THT, EE_16_8_5, Ui = 11.8 - 13.2V, Uo = 12V/0.6A; Manufacturer: Wurth Elektronik; Buck Voltage: 4.2V; Inductance: 37.5uH; Insulation Test Voltage: 1500V AC; Leakage Inductance: 400nH; Output Current 1: 0.6A; Output Voltage 1: 12V; Saturation Current: 3A; Switching Frequency: 600kHz; Manufacturer Part Number: 750315393; Category: Transformers For DC-DC Converter; Match Code: WE-IBTI; ComponentLink1Description: Website Link; ComponentLink1URL: https://www.we-online.com/redexpert/article/750315393?ad; ComponentLink2Description: Datasheet Link; ComponentLink2URL: https://www.we-online.com/redexpert/spec/750315393?ad; Mount: Through Hole; Operating Temperature Max: 125°C; Operating Temperature Min: -40°C; Packaging: Tray; Case/Size Code: EE_16_8_5; Length: 17.96mm; Width: 20.3mm; Height: 14.3mm; Input Voltage: 11.8 - 13.2V
footprint EE_16_8_5_750315393
pins: 1, 2, 3, 4, 6, 7
text: N1; N2

## 750315547
designator T?  (value not drawn)
WE-IBTI Isolated Buck Transformer, SMT, EP7, Ui = 12 - 48V, Uo = 3.6V/0.1A; Manufacturer: Wurth Elektronik; Buck Voltage: 3.3V; Inductance: 42uH; Input Voltage: 12 - 48V; Insulation Test Voltage: 2500V AC; Leakage Inductance: 800nH; Output Current 1: 0.1A; Output Voltage 1: 3.6V; Saturation Current: 1.1A; Switching Frequency: 300kHz; Manufacturer Part Number: 750315547; Category: Transformers For DC-DC Converter; Match Code: WE-IBTI; ComponentLink1Description: Website Link; ComponentLink1URL: https://www.we-online.com/redexpert/article/750315547?ad; ComponentLink2Description: Datasheet Link; ComponentLink2URL: https://www.we-online.com/redexpert/spec/750315547?ad; Mount: Surface Mount; Operating Temperature Max: 125°C; Operating Temperature Min: -40°C; Packaging: Tape and Reel; Case/Size Code: EP7; Length: 9.78mm; Width: 9.14mm; Height: 10.54mm
footprint EP7_750315547
pins: 1, 2, 3, 4, 6, 7
text: N1; N2

## 750315703
designator T?  (value not drawn)
WE-IBTI Isolated Buck Transformer, SMT, EP7, Ui = 5 - 15V, Uo = 5V/0.5A; Manufacturer: Wurth Elektronik; Buck Voltage: 4.5V; Inductance: 25uH; Input Voltage: 5 - 15V; Insulation Test Voltage: 2500V AC; Leakage Inductance: 380nH; Output Current 1: 0.5A; Output Voltage 1: 5V; Saturation Current: 1A; Switching Frequency: 200kHz; Manufacturer Part Number: 750315703; Category: Transformers For DC-DC Converter; Match Code: WE-IBTI; ComponentLink1Description: Website Link; ComponentLink1URL: https://www.we-online.com/redexpert/article/750315703?ad; ComponentLink2Description: Datasheet Link; ComponentLink2URL: https://www.we-online.com/redexpert/spec/750315703?ad; Mount: Surface Mount; Operating Temperature Max: 125°C; Operating Temperature Min: -40°C; Packaging: Tape and Reel; Case/Size Code: EP7; Length: 9.78mm; Width: 9.5mm; Height: 10.54mm
footprint EP7_750315703
pins: 1, 3, 6, 8
text: N1; N2

## 750315811
designator T?  (value not drawn)
WE-IBTI Isolated Buck Transformer, SMT, EP10, Ui = 36 - 72V, Uo = 12V/0.83A; Manufacturer: Wurth Elektronik; Buck Voltage: 12V; Inductance: 60uH; Input Voltage: 36 - 72V; Insulation Test Voltage: 1500V AC; Leakage Inductance: 1700nH; Output Current 1: 0.83A; Saturation Current: 2.1A; Switching Frequency: 300kHz; Manufacturer Part Number: 750315811; Category: Transformers For DC-DC Converter; Match Code: WE-IBTI; ComponentLink1Description: Website Link; ComponentLink1URL: https://www.we-online.com/redexpert/article/750315811?ad; ComponentLink2Description: Datasheet Link; ComponentLink2URL: https://www.we-online.com/redexpert/spec/750315811?ad; Mount: Surface Mount; Operating Temperature Max: 125°C; Operating Temperature Min: -40°C; Packaging: Tape and Reel; Case/Size Code: EP10; Length: 13.34mm; Width: 15.24mm; Height: 11.43mm; Output Voltage 1: 12V
footprint EP10_750315811
pins: 1, 2, 3, 4, 5, 8
text: N1; N2

## 750315856
designator T?  (value not drawn)
WE-IBTI Isolated Buck Transformer, SMT, ER11_5, Ui = 16 - 36V, Uo1 = 27V/0.04A, Uo2 = 5V/0.05A, Uo3 = -5V/0.02A; Manufacturer: Wurth Elektronik; Buck Voltage: 9V; Inductance: 120uH; Input Voltage: 16 - 36V; Insulation Test Voltage: 625V AC; Leakage Inductance: 5000nH; Output Current 1: 0.04A; Output Current 2: 0.05A; Output Current 3: 0.02A; Output Voltage 1: 27V; Output Voltage 2: 5V; Output Voltage 3: -5V; Saturation Current: 0.65A; Switching Frequency: 250kHz; Manufacturer Part Number: 750315856; Category: Transformers For DC-DC Converter; Match Code: WE-IBTI; ComponentLink1Description: Website Link; ComponentLink1URL: https://www.we-online.com/redexpert/article/750315856?ad; ComponentLink2Description: Datasheet Link; ComponentLink2URL: https://www.we-online.com/redexpert/spec/750315856?ad; Mount: Surface Mount; Operating Temperature Max: 125°C; Operating Temperature Min: -40°C; Packaging: Tape and Reel; Case/Size Code: ER11_5; Length: 12.95mm; Width: 12.85mm; Height: 6.35mm
footprint ER11_5_750315856
pins: 2, 4, 7, 8, 9, 10, 11, 12
text: N2; N1; N3; N4

## 750316170
designator T?  (value not drawn)
WE-IBTI Isolated Buck Transformer, SMT, EP7, Ui = 3.5 - 5.5V, Uo1 = 13.5V/0.01A, Uo2 = -13.5V/0.01A, Uo3 = 5V/0.1A; Manufacturer: Wurth Elektronik; Buck Voltage: 2.17V; Inductance: 2.7uH; Insulation Test Voltage: 1875V AC; Leakage Inductance: 500nH; Output Current 1: 0.01A; Output Current 3: 0.1A; Output Voltage 1: 13.5V; Output Voltage 2: -13.5V; Output Voltage 3: 5V; Saturation Current: 7A; Switching Frequency: 400kHz; Manufacturer Part Number: 750316170; Category: Transformers For DC-DC Converter; Match Code: WE-IBTI; ComponentLink1Description: Website Link; ComponentLink1URL: https://www.we-online.com/redexpert/article/750316170?ad; ComponentLink2Description: Datasheet Link; ComponentLink2URL: https://www.we-online.com/redexpert/spec/750316170?ad; Mount: Surface Mount; Operating Temperature Max: 125°C; Operating Temperature Min: -40°C; Packaging: Tape and Reel; Case/Size Code: EP7; Length: 9.78mm; Width: 9.5mm; Height: 10.54mm; Input Voltage: 3.5 - 5.5V; Output Current 2: 0.01A
footprint EP7_750316170
pins: 1, 2, 4, 5, 6, 7, 8
text: N2; N3; N1; N4

## 750316586
designator T?  (value not drawn)
WE-IBTI Isolated Buck Transformer, THT, EE20_10_6, Ui = 10 - 14V, Uo1 = 7V/0.3A, Uo2 = 12V/0.05A, Uo3 = 30V/0.075A; Manufacturer: Wurth Elektronik; Buck Voltage: -12V; Inductance: 150uH; Input Voltage: 10 - 14V; Insulation Test Voltage: 4000V AC; Leakage Inductance: 1700nH; Output Current 1: 0.3A; Output Current 2: 0.05A; Output Current 3: 0.075A; Output Voltage 1: 7V; Output Voltage 2: 12V; Output Voltage 3: 30V; Saturation Current: 1.3A; Switching Frequency: 200kHz; Manufacturer Part Number: 750316586; Category: Transformers For DC-DC Converter; Match Code: WE-IBTI; ComponentLink1Description: Website Link; ComponentLink1URL: https://www.we-online.com/redexpert/article/750316586?ad; ComponentLink2Description: Datasheet Link; ComponentLink2URL: https://www.we-online.com/redexpert/spec/750316586?ad; Mount: Through Hole; Operating Temperature Max: 125°C; Operating Temperature Min: -40°C; Packaging: Tray; Case/Size Code: EE20_10_6; Length: 22.2mm; Width: 25mm; Height: 16mm
footprint EE20_10_6_750316586
pins: 2, 3, 4, 5, 7, 8, 10, 11, 13, 14
text: N2; N1; N3; N4

## 750317963
designator T?  (value not drawn)
WE-IBTI Isolated Buck Transformer, THT, EP13, Ui = 18 - 60V, Uo1 = 25V/0.06A, Uo2 = 25V/0.06A, Uo3 = 25V/0.06A, Uo4 = 25V/0.06A; Manufacturer: Wurth Elektronik; Inductance: 22uH; Input Voltage: 18 - 60V; Insulation Test Voltage: 1000V AC; Leakage Inductance: 200nH; Output Current 1: 0.06A; Output Voltage 1: 25V; Saturation Current: 2.4A; Switching Frequency: 220 - 350kHz; Manufacturer Part Number: 750317963; Category: Transformers For DC-DC Converter; Match Code: WE-IBTI; ComponentLink1Description: Website Link; ComponentLink1URL: https://www.we-online.com/redexpert/article/750317963?ad; ComponentLink2Description: Datasheet Link; ComponentLink2URL: https://www.we-online.com/redexpert/spec/750317963?ad; Mount: Through Hole; Operating Temperature Max: 125°C; Operating Temperature Min: -40°C; Packaging: Tray; Case/Size Code: EP13; Length: 13.97mm; Width: 15.37mm; Height: 12.7mm; Output Current 2: 0.06A; Output Current 3: 0.06A; Output Current 4: 0.06A; Output Voltage 2: 25V; Output Voltage 3: 25V; Output Voltage 4: 25V
footprint EP13_750317963
pins: 1, 2, 3, 4, 5, 6, 7, 8, 9, 11, 14, 16
text: N2; N3; N1; N4; N5

## 750342156
designator T?  (value not drawn)
WE-IBTI Isolated Buck Transformer, SMT, EP10, Ui = 15 - 40V, Uo1 = 12.7V/0.6A, Uo2 = 12.7V/0.6A; Manufacturer: Wurth Elektronik; Inductance: 66uH; Input Voltage: 15 - 40V; Insulation Test Voltage: 1500V AC; Leakage Inductance: 1500nH; Output Current 1: 0.6A; Output Voltage 1: 12.7V; Saturation Current: 1.2A; Switching Frequency: 600kHz; Manufacturer Part Number: 750342156; Category: Transformers For DC-DC Converter; Match Code: WE-IBTI; ComponentLink1Description: Website Link; ComponentLink1URL: https://www.we-online.com/redexpert/article/750342156?ad; ComponentLink2Description: Datasheet Link; ComponentLink2URL: https://www.we-online.com/redexpert/spec/750342156?ad; Mount: Surface Mount; Operating Temperature Max: 125°C; Operating Temperature Min: -40°C; Packaging: Tape and Reel; Case/Size Code: EP10; Length: 13.34mm; Width: 15.24mm; Height: 11.43mm; Output Current 2: 0.6A; Output Voltage 2: 12.7V
footprint EP10_750342156
pins: 1, 3, 4, 5, 6, 8
text: N2; N1; N3

## 750342206
designator T?  (value not drawn)
WE-IBTI Isolated Buck Transformer, SMT, ER11_5, Ui = 18 - 24V, Uo1 = 15V/0.15A, Uo2 = 5V/0.1A, Uo3 = 15V/0.15A; Manufacturer: Wurth Elektronik; Auxiliary Voltage: 5V; Inductance: 50uH; Input Voltage: 18 - 24V; Insulation Test Voltage: 1500V AC; Output Current 1: 0.15A; Output Current 2: 0.1A; Output Voltage 1: 15V; Switching Frequency: 200 - 400kHz; Manufacturer Part Number: 750342206; Category: Transformers For DC-DC Converter; Match Code: WE-IBTI; ComponentLink1Description: Website Link; ComponentLink1URL: https://www.we-online.com/redexpert/article/750342206?ad; ComponentLink2Description: Datasheet Link; ComponentLink2URL: https://www.we-online.com/redexpert/spec/750342206?ad; Mount: Surface Mount; Operating Temperature Max: 125°C; Operating Temperature Min: -40°C; Packaging: Tape and Reel; Case/Size Code: ER11_5; Length: 12.95mm; Width: 12.85mm; Height: 6.35mm; Output Current 3: 0.15A; Output Voltage 2: 5V; Output Voltage 3: 15V
footprint ER11_5_750342206
pins: 1, 2, 4, 5, 7, 8, 10, 12
text: N2; N1; N3; N5; N4

## 750342627
designator T?  (value not drawn)
WE-IBTI Isolated Buck Transformer, THT, EE_16_8_5, Ui = 9 - 15V, Uo = 9V/0.25A; Manufacturer: Wurth Elektronik; Inductance: 20uH; Input Voltage: 9 - 15V; Insulation Test Voltage: 4500V AC; Leakage Inductance: 270nH; Output Current 1: 0.25A; Output Voltage 1: 9V; Saturation Current: 2A; Switching Frequency: 200 - 350kHz; Manufacturer Part Number: 750342627; Category: Transformers For DC-DC Converter; Match Code: WE-IBTI; ComponentLink1Description: Website Link; ComponentLink1URL: https://www.we-online.com/redexpert/article/750342627?ad; ComponentLink2Description: Datasheet Link; ComponentLink2URL: https://www.we-online.com/redexpert/spec/750342627?ad; Mount: Through Hole; Operating Temperature Max: 125°C; Operating Temperature Min: -40°C; Packaging: Tray; Case/Size Code: EE_16_8_5; Length: 20.32mm; Width: 24.38mm; Height: 16mm
footprint EE_16_8_5_750342627
pins: 1, 2, 3, 7, 8, 9
text: N1; N2

## 750344207
designator T?  (value not drawn)
WE-IBTI Isolated Buck Transformer, SMT, EP10, Ui = 36 - 75V, Uo = 9V/0.05A; Manufacturer: Wurth Elektronik; Buck Voltage: 9V; Inductance: 150uH; Input Voltage: 36 - 75V; Insulation Test Voltage: 3000V AC; Leakage Inductance: 3400nH; Output Current 1: 0.05A; Switching Frequency: 600kHz; Manufacturer Part Number: 750344207; Category: Transformers For DC-DC Converter; Match Code: WE-IBTI; ComponentLink1Description: Website Link; ComponentLink1URL: https://www.we-online.com/redexpert/article/750344207?ad; ComponentLink2Description: Datasheet Link; ComponentLink2URL: https://www.we-online.com/redexpert/spec/750344207?ad; Mount: Surface Mount; Operating Temperature Max: 125°C; Operating Temperature Min: -40°C; Packaging: Tape and Reel; Case/Size Code: EP10; Length: 12.4mm; Width: 13.8mm; Height: 13.6mm; Output Voltage 1: 9V
footprint EP10_750344207
pins: 2, 3, 6, 7
text: N1; N2